# Altium footprint library RASPBERRY_PI_B_.PcbLib: 2 footprints
Each footprint in its own frame and in the unit in brackets; x right, y up, seen from the top. Pads: shape width x height; smd on the part's side, far side on the other; paste and mask are expansions set on the pad; w line width, h text height; cw(c..) or ccw(c..) is an arc to the next point about the centre after c.
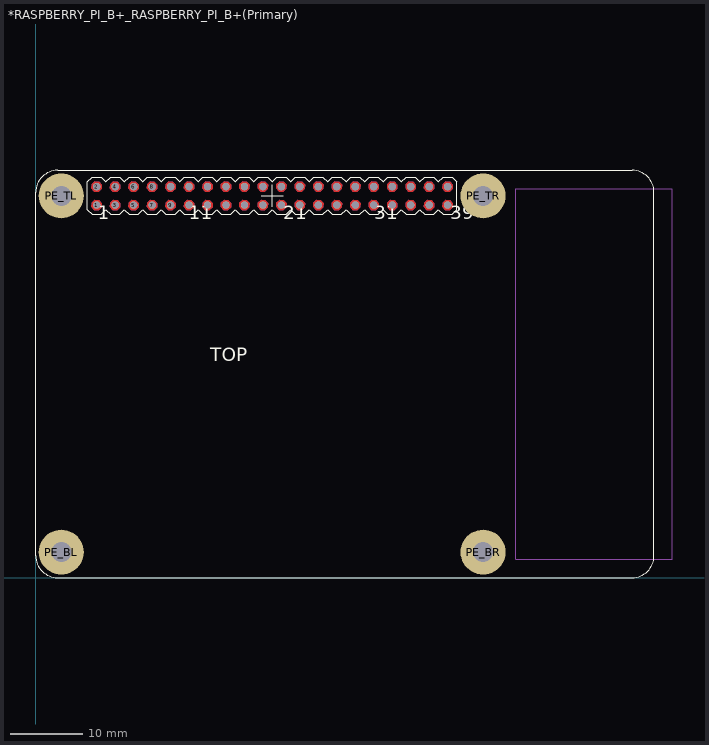
[diagram p0: the footprints below, top view; thin cyan lines are the x and y axes]

## *RASPBERRY_PI_B+_RASPBERRY_PI_B+(Primary) [mil]
pads (44):
  round 40 hole 40: 1(329.53,2016.93) 2(329.53,2116.93) 3(429.53,2016.93) 4(429.53,2116.93) 5(529.53,2016.93) 6(529.53,2116.93) 7(629.53,2016.93) 8(629.53,2116.93) 9(729.53,2016.93) 10(729.53,2116.93) 11(829.53,2016.93) 12(829.53,2116.93) 13(929.53,2016.93) 14(929.53,2116.93) 15(1029.53,2016.93) 16(1029.53,2116.93) 17(1129.53,2016.93) 18(1129.53,2116.93) 19(1229.53,2016.93) 20(1229.53,2116.93) 21(1329.53,2016.93) 22(1329.53,2116.93) 23(1429.53,2016.93) 24(1429.53,2116.93) 25(1529.53,2016.93) 26(1529.53,2116.93) 27(1629.53,2016.93) 28(1629.53,2116.93) 29(1729.53,2016.93) 30(1729.53,2116.93) 31(1829.53,2016.93) 32(1829.53,2116.93) 33(1929.53,2016.93) 34(1929.53,2116.93) 35(2029.53,2016.93) 36(2029.53,2116.93) 37(2129.53,2016.93) 38(2129.53,2116.93) 39(2229.53,2016.93) 40(2229.53,2116.93)
  round 244.09 hole 108.27: PE_BL(137.8,137.8) PE_BR(2421.26,137.8) PE_TL(137.8,2066.93) PE_TR(2421.26,2066.93)
Top Layer:
  region: 2257.72,2127.19 2242.21,2144.12 2219.27,2145.12 2202.34,2129.61 2201.34,2106.67 2216.85,2089.74 2239.79,2088.74 2256.72,2104.25
  region: 2157.72,2127.19 2142.21,2144.12 2119.27,2145.12 2102.34,2129.61 2101.34,2106.67 2116.85,2089.74 2139.79,2088.74 2156.72,2104.25
  region: 2057.72,2127.19 2042.21,2144.12 2019.27,2145.12 2002.34,2129.61 2001.34,2106.67 2016.85,2089.74 2039.79,2088.74 2056.72,2104.25
  region: 1957.72,2127.19 1942.21,2144.12 1919.27,2145.12 1902.34,2129.61 1901.34,2106.67 1916.85,2089.74 1939.79,2088.74 1956.72,2104.25
  region: 1857.72,2127.19 1842.21,2144.12 1819.27,2145.12 1802.34,2129.61 1801.34,2106.67 1816.85,2089.74 1839.79,2088.74 1856.72,2104.25
  region: 1757.72,2127.19 1742.21,2144.12 1719.27,2145.12 1702.34,2129.61 1701.34,2106.67 1716.85,2089.74 1739.79,2088.74 1756.72,2104.25
  region: 2257.72,2027.19 2242.21,2044.12 2219.27,2045.12 2202.34,2029.61 2201.34,2006.67 2216.85,1989.74 2239.79,1988.74 2256.72,2004.25
  region: 2157.72,2027.19 2142.21,2044.12 2119.27,2045.12 2102.34,2029.61 2101.34,2006.67 2116.85,1989.74 2139.79,1988.74 2156.72,2004.25
  region: 2057.72,2027.19 2042.21,2044.12 2019.27,2045.12 2002.34,2029.61 2001.34,2006.67 2016.85,1989.74 2039.79,1988.74 2056.72,2004.25
  region: 1957.72,2027.19 1942.21,2044.12 1919.27,2045.12 1902.34,2029.61 1901.34,2006.67 1916.85,1989.74 1939.79,1988.74 1956.72,2004.25
  region: 1857.72,2027.19 1842.21,2044.12 1819.27,2045.12 1802.34,2029.61 1801.34,2006.67 1816.85,1989.74 1839.79,1988.74 1856.72,2004.25
  region: 1757.72,2027.19 1742.21,2044.12 1719.27,2045.12 1702.34,2029.61 1701.34,2006.67 1716.85,1989.74 1739.79,1988.74 1756.72,2004.25
  region: 1657.72,2127.19 1642.21,2144.12 1619.27,2145.12 1602.34,2129.61 1601.34,2106.67 1616.85,2089.74 1639.79,2088.74 1656.72,2104.25
  region: 1657.72,2027.19 1642.21,2044.12 1619.27,2045.12 1602.34,2029.61 1601.34,2006.67 1616.85,1989.74 1639.79,1988.74 1656.72,2004.25
  region: 1557.72,2127.19 1542.21,2144.12 1519.27,2145.12 1502.34,2129.61 1501.34,2106.67 1516.85,2089.74 1539.79,2088.74 1556.72,2104.25
  region: 1457.72,2127.19 1442.21,2144.12 1419.27,2145.12 1402.34,2129.61 1401.34,2106.67 1416.85,2089.74 1439.79,2088.74 1456.72,2104.25
  region: 1357.72,2127.19 1342.21,2144.12 1319.27,2145.12 1302.34,2129.61 1301.34,2106.67 1316.85,2089.74 1339.79,2088.74 1356.72,2104.25
  region: 1257.72,2127.19 1242.21,2144.12 1219.27,2145.12 1202.34,2129.61 1201.34,2106.67 1216.85,2089.74 1239.79,2088.74 1256.72,2104.25
  region: 1157.72,2127.19 1142.21,2144.12 1119.27,2145.12 1102.34,2129.61 1101.34,2106.67 1116.85,2089.74 1139.79,2088.74 1156.72,2104.25
  region: 1057.72,2127.19 1042.21,2144.12 1019.27,2145.12 1002.34,2129.61 1001.34,2106.67 1016.85,2089.74 1039.79,2088.74 1056.72,2104.25
  region: 1557.72,2027.19 1542.21,2044.12 1519.27,2045.12 1502.34,2029.61 1501.34,2006.67 1516.85,1989.74 1539.79,1988.74 1556.72,2004.25
  region: 1457.72,2027.19 1442.21,2044.12 1419.27,2045.12 1402.34,2029.61 1401.34,2006.67 1416.85,1989.74 1439.79,1988.74 1456.72,2004.25
  region: 1357.72,2027.19 1342.21,2044.12 1319.27,2045.12 1302.34,2029.61 1301.34,2006.67 1316.85,1989.74 1339.79,1988.74 1356.72,2004.25
  region: 1257.72,2027.19 1242.21,2044.12 1219.27,2045.12 1202.34,2029.61 1201.34,2006.67 1216.85,1989.74 1239.79,1988.74 1256.72,2004.25
  region: 1157.72,2027.19 1142.21,2044.12 1119.27,2045.12 1102.34,2029.61 1101.34,2006.67 1116.85,1989.74 1139.79,1988.74 1156.72,2004.25
  region: 1057.72,2027.19 1042.21,2044.12 1019.27,2045.12 1002.34,2029.61 1001.34,2006.67 1016.85,1989.74 1039.79,1988.74 1056.72,2004.25
  region: 957.72,2127.19 942.21,2144.12 919.27,2145.12 902.34,2129.61 901.34,2106.67 916.85,2089.74 939.79,2088.74 956.72,2104.25
  region: 957.72,2027.19 942.21,2044.12 919.27,2045.12 902.34,2029.61 901.34,2006.67 916.85,1989.74 939.79,1988.74 956.72,2004.25
  region: 857.72,2127.19 842.21,2144.12 819.27,2145.12 802.34,2129.61 801.34,2106.67 816.85,2089.74 839.79,2088.74 856.72,2104.25
  region: 757.72,2127.19 742.21,2144.12 719.27,2145.12 702.34,2129.61 701.34,2106.67 716.85,2089.74 739.79,2088.74 756.72,2104.25
  region: 657.72,2127.19 642.21,2144.12 619.27,2145.12 602.34,2129.61 601.34,2106.67 616.85,2089.74 639.79,2088.74 656.72,2104.25
  region: 557.72,2127.19 542.21,2144.12 519.27,2145.12 502.34,2129.61 501.34,2106.67 516.85,2089.74 539.79,2088.74 556.72,2104.25
  region: 457.72,2127.19 442.21,2144.12 419.27,2145.12 402.34,2129.61 401.34,2106.67 416.85,2089.74 439.79,2088.74 456.72,2104.25
  region: 357.72,2127.19 342.21,2144.12 319.27,2145.12 302.34,2129.61 301.34,2106.67 316.85,2089.74 339.79,2088.74 356.72,2104.25
  region: 857.72,2027.19 842.21,2044.12 819.27,2045.12 802.34,2029.61 801.34,2006.67 816.85,1989.74 839.79,1988.74 856.72,2004.25
  region: 757.72,2027.19 742.21,2044.12 719.27,2045.12 702.34,2029.61 701.34,2006.67 716.85,1989.74 739.79,1988.74 756.72,2004.25
  region: 657.72,2027.19 642.21,2044.12 619.27,2045.12 602.34,2029.61 601.34,2006.67 616.85,1989.74 639.79,1988.74 656.72,2004.25
  region: 557.72,2027.19 542.21,2044.12 519.27,2045.12 502.34,2029.61 501.34,2006.67 516.85,1989.74 539.79,1988.74 556.72,2004.25
  region: 457.72,2027.19 442.21,2044.12 419.27,2045.12 402.34,2029.61 401.34,2006.67 416.85,1989.74 439.79,1988.74 456.72,2004.25
  region: 357.72,2027.19 342.21,2044.12 319.27,2045.12 302.34,2029.61 301.34,2006.67 316.85,1989.74 339.79,1988.74 356.72,2004.25
Bottom Layer:
  region: 2257.72,2127.19 2242.21,2144.12 2219.27,2145.12 2202.34,2129.61 2201.34,2106.67 2216.85,2089.74 2239.79,2088.74 2256.72,2104.25
  region: 2157.72,2127.19 2142.21,2144.12 2119.27,2145.12 2102.34,2129.61 2101.34,2106.67 2116.85,2089.74 2139.79,2088.74 2156.72,2104.25
  region: 2057.72,2127.19 2042.21,2144.12 2019.27,2145.12 2002.34,2129.61 2001.34,2106.67 2016.85,2089.74 2039.79,2088.74 2056.72,2104.25
  region: 1957.72,2127.19 1942.21,2144.12 1919.27,2145.12 1902.34,2129.61 1901.34,2106.67 1916.85,2089.74 1939.79,2088.74 1956.72,2104.25
  region: 1857.72,2127.19 1842.21,2144.12 1819.27,2145.12 1802.34,2129.61 1801.34,2106.67 1816.85,2089.74 1839.79,2088.74 1856.72,2104.25
  region: 1757.72,2127.19 1742.21,2144.12 1719.27,2145.12 1702.34,2129.61 1701.34,2106.67 1716.85,2089.74 1739.79,2088.74 1756.72,2104.25
  region: 2257.72,2027.19 2242.21,2044.12 2219.27,2045.12 2202.34,2029.61 2201.34,2006.67 2216.85,1989.74 2239.79,1988.74 2256.72,2004.25
  region: 2157.72,2027.19 2142.21,2044.12 2119.27,2045.12 2102.34,2029.61 2101.34,2006.67 2116.85,1989.74 2139.79,1988.74 2156.72,2004.25
  region: 2057.72,2027.19 2042.21,2044.12 2019.27,2045.12 2002.34,2029.61 2001.34,2006.67 2016.85,1989.74 2039.79,1988.74 2056.72,2004.25
  region: 1957.72,2027.19 1942.21,2044.12 1919.27,2045.12 1902.34,2029.61 1901.34,2006.67 1916.85,1989.74 1939.79,1988.74 1956.72,2004.25
  region: 1857.72,2027.19 1842.21,2044.12 1819.27,2045.12 1802.34,2029.61 1801.34,2006.67 1816.85,1989.74 1839.79,1988.74 1856.72,2004.25
  region: 1757.72,2027.19 1742.21,2044.12 1719.27,2045.12 1702.34,2029.61 1701.34,2006.67 1716.85,1989.74 1739.79,1988.74 1756.72,2004.25
  region: 1657.72,2127.19 1642.21,2144.12 1619.27,2145.12 1602.34,2129.61 1601.34,2106.67 1616.85,2089.74 1639.79,2088.74 1656.72,2104.25
  region: 1657.72,2027.19 1642.21,2044.12 1619.27,2045.12 1602.34,2029.61 1601.34,2006.67 1616.85,1989.74 1639.79,1988.74 1656.72,2004.25
  region: 1557.72,2127.19 1542.21,2144.12 1519.27,2145.12 1502.34,2129.61 1501.34,2106.67 1516.85,2089.74 1539.79,2088.74 1556.72,2104.25
  region: 1457.72,2127.19 1442.21,2144.12 1419.27,2145.12 1402.34,2129.61 1401.34,2106.67 1416.85,2089.74 1439.79,2088.74 1456.72,2104.25
  region: 1357.72,2127.19 1342.21,2144.12 1319.27,2145.12 1302.34,2129.61 1301.34,2106.67 1316.85,2089.74 1339.79,2088.74 1356.72,2104.25
  region: 1257.72,2127.19 1242.21,2144.12 1219.27,2145.12 1202.34,2129.61 1201.34,2106.67 1216.85,2089.74 1239.79,2088.74 1256.72,2104.25
  region: 1157.72,2127.19 1142.21,2144.12 1119.27,2145.12 1102.34,2129.61 1101.34,2106.67 1116.85,2089.74 1139.79,2088.74 1156.72,2104.25
  region: 1057.72,2127.19 1042.21,2144.12 1019.27,2145.12 1002.34,2129.61 1001.34,2106.67 1016.85,2089.74 1039.79,2088.74 1056.72,2104.25
  region: 1557.72,2027.19 1542.21,2044.12 1519.27,2045.12 1502.34,2029.61 1501.34,2006.67 1516.85,1989.74 1539.79,1988.74 1556.72,2004.25
  region: 1457.72,2027.19 1442.21,2044.12 1419.27,2045.12 1402.34,2029.61 1401.34,2006.67 1416.85,1989.74 1439.79,1988.74 1456.72,2004.25
  region: 1357.72,2027.19 1342.21,2044.12 1319.27,2045.12 1302.34,2029.61 1301.34,2006.67 1316.85,1989.74 1339.79,1988.74 1356.72,2004.25
  region: 1257.72,2027.19 1242.21,2044.12 1219.27,2045.12 1202.34,2029.61 1201.34,2006.67 1216.85,1989.74 1239.79,1988.74 1256.72,2004.25
  region: 1157.72,2027.19 1142.21,2044.12 1119.27,2045.12 1102.34,2029.61 1101.34,2006.67 1116.85,1989.74 1139.79,1988.74 1156.72,2004.25
  region: 1057.72,2027.19 1042.21,2044.12 1019.27,2045.12 1002.34,2029.61 1001.34,2006.67 1016.85,1989.74 1039.79,1988.74 1056.72,2004.25
  region: 957.72,2127.19 942.21,2144.12 919.27,2145.12 902.34,2129.61 901.34,2106.67 916.85,2089.74 939.79,2088.74 956.72,2104.25
  region: 957.72,2027.19 942.21,2044.12 919.27,2045.12 902.34,2029.61 901.34,2006.67 916.85,1989.74 939.79,1988.74 956.72,2004.25
  region: 857.72,2127.19 842.21,2144.12 819.27,2145.12 802.34,2129.61 801.34,2106.67 816.85,2089.74 839.79,2088.74 856.72,2104.25
  region: 757.72,2127.19 742.21,2144.12 719.27,2145.12 702.34,2129.61 701.34,2106.67 716.85,2089.74 739.79,2088.74 756.72,2104.25
  region: 657.72,2127.19 642.21,2144.12 619.27,2145.12 602.34,2129.61 601.34,2106.67 616.85,2089.74 639.79,2088.74 656.72,2104.25
  region: 557.72,2127.19 542.21,2144.12 519.27,2145.12 502.34,2129.61 501.34,2106.67 516.85,2089.74 539.79,2088.74 556.72,2104.25
  region: 457.72,2127.19 442.21,2144.12 419.27,2145.12 402.34,2129.61 401.34,2106.67 416.85,2089.74 439.79,2088.74 456.72,2104.25
  region: 357.72,2127.19 342.21,2144.12 319.27,2145.12 302.34,2129.61 301.34,2106.67 316.85,2089.74 339.79,2088.74 356.72,2104.25
  region: 857.72,2027.19 842.21,2044.12 819.27,2045.12 802.34,2029.61 801.34,2006.67 816.85,1989.74 839.79,1988.74 856.72,2004.25
  region: 757.72,2027.19 742.21,2044.12 719.27,2045.12 702.34,2029.61 701.34,2006.67 716.85,1989.74 739.79,1988.74 756.72,2004.25
  region: 657.72,2027.19 642.21,2044.12 619.27,2045.12 602.34,2029.61 601.34,2006.67 616.85,1989.74 639.79,1988.74 656.72,2004.25
  region: 557.72,2027.19 542.21,2044.12 519.27,2045.12 502.34,2029.61 501.34,2006.67 516.85,1989.74 539.79,1988.74 556.72,2004.25
  region: 457.72,2027.19 442.21,2044.12 419.27,2045.12 402.34,2029.61 401.34,2006.67 416.85,1989.74 439.79,1988.74 456.72,2004.25
  region: 357.72,2027.19 342.21,2044.12 319.27,2045.12 302.34,2029.61 301.34,2006.67 316.85,1989.74 339.79,1988.74 356.72,2004.25
Top Overlay:
  lines w5: 1220.47,2066.93 1338.58,2066.93 ; 1279.53,2007.87 1279.53,2125.98 ; 0,118.11 ccw(c118.11,118.11) 118.11,0 3228.35,0 ccw(c3228.35,118.11) 3346.46,118.11 3346.46,2086.61 ccw(c3228.35,2086.61) 3228.35,2204.72 118.11,2204.72 ccw(c118.11,2086.61) 0,2086.61 0,118.11
  lines w6: 279.53,1991.93 304.53,1966.93 354.53,1966.93 379.53,1991.93 404.53,1966.93 454.53,1966.93 479.53,1991.93 504.53,1966.93 554.53,1966.93 579.53,1991.93 604.53,1966.93 654.53,1966.93 679.53,1991.93 704.53,1966.93 754.53,1966.93 779.53,1991.93 804.53,1966.93 854.53,1966.93 879.53,1991.93 904.53,1966.93 954.53,1966.93 979.53,1991.93 1004.53,1966.93 1054.53,1966.93 1079.53,1991.93 1104.53,1966.93 1154.53,1966.93 1179.53,1991.93 1204.53,1966.93 1254.53,1966.93 1279.53,1991.93 1304.53,1966.93 1354.53,1966.93 1379.53,1991.93 1404.53,1966.93 1454.53,1966.93 1479.53,1991.93 1504.53,1966.93 1554.53,1966.93 1579.53,1991.93 1604.53,1966.93 1654.53,1966.93 1679.53,1991.93 1704.53,1966.93 1754.53,1966.93 1779.53,1991.93 1804.53,1966.93 1854.53,1966.93 1879.53,1991.93 1904.53,1966.93 1954.53,1966.93 1979.53,1991.93 2004.53,1966.93 2054.53,1966.93 2079.53,1991.93 2104.53,1966.93 2154.53,1966.93 2179.53,1991.93 2204.53,1966.93 2254.53,1966.93 2279.53,1991.93 2279.53,2141.93 2254.53,2166.93 2204.53,2166.93 2179.53,2141.93 2154.53,2166.93 2104.53,2166.93 2079.53,2141.93 2054.53,2166.93 2004.53,2166.93 1979.53,2141.93 1954.53,2166.93 1904.53,2166.93 1879.53,2141.93 1854.53,2166.93 1804.53,2166.93 1779.53,2141.93 1754.53,2166.93 1704.53,2166.93 1679.53,2141.93 1654.53,2166.93 1604.53,2166.93 1579.53,2141.93 1554.53,2166.93 1504.53,2166.93 1479.53,2141.93 1454.53,2166.93 1404.53,2166.93 1379.53,2141.93 1354.53,2166.93 1304.53,2166.93 1279.53,2141.93 1254.53,2166.93 1204.53,2166.93 1179.53,2141.93 1154.53,2166.93 1104.53,2166.93 1079.53,2141.93 1054.53,2166.93 1004.53,2166.93 979.53,2141.93 954.53,2166.93 904.53,2166.93 879.53,2141.93 854.53,2166.93 804.53,2166.93 779.53,2141.93 754.53,2166.93 704.53,2166.93 679.53,2141.93 654.53,2166.93 604.53,2166.93 579.53,2141.93 554.53,2166.93 504.53,2166.93 479.53,2141.93 454.53,2166.93 404.53,2166.93 379.53,2141.93 354.53,2166.93 304.53,2166.93 279.53,2141.93 279.53,1991.93
  text "31" at 1830.71,1938.98 h73.82
  text "21" at 1338.58,1938.98 h73.82
  text "11" at 826.77,1938.98 h73.82
  text "39" at 2244.09,1938.98 h73.82
  text "1" at 334.65,1938.98 h73.82
  text "TOP" at 944.88,1171.26 h73.82
Mechanical 4:
  lines w5: 2598.43,98.43 2598.43,2106.3 ; 2598.43,98.43 3444.88,98.43 ; 2598.43,98.43 2598.43,2106.3 ; 2598.43,98.43 3444.88,98.43 ; 2598.43,2106.3 3444.88,2106.3 ; 2598.43,2106.3 3444.88,2106.3 ; 3444.88,98.43 3444.88,2106.3 ; 3444.88,98.43 3444.88,2106.3
  text "J8" at 275.59,1919.29 h73.82
  text "J8" at 275.59,1919.29 h73.82
Multi-Layer:
  drawing of 40 lines, arcs and shapes, not listed

## PCBComponent_1 [mil]